# EAGLE library part MSP430_BB (library CYCFI_Module_castellated)
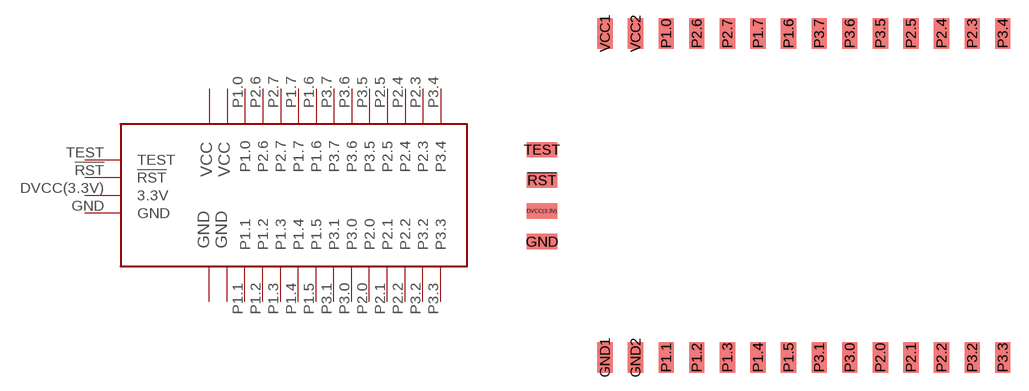
[diagram p0: symbol with the pads of MSP430_BB; footprint MSP430_BB]

Designator prefix -

## MSP430_BB  [MSP430_BB]
!RST  !RST
DVCC(3.3V)  3.3V
GND  GND
GND1  GND1
GND2  GND2
P1.0  P1.0
P1.1  P1.1
P1.2  P1.2
P1.3  P1.3
P1.4  P1.4
P1.5  P1.5
P1.6  P1.6
P1.7  P1.7
P2.0  P2.0
P2.1  P2.1
P2.2  P2.2
P2.3  P2.3
P2.4  P2.4
P2.5  P2.5
P2.6  P2.6
P2.7  P2.7
P3.0  P3.0
P3.1  P3.1
P3.2  P3.2
P3.3  P3.3
P3.4  P3.4
P3.5  P3.5
P3.6  P3.6
P3.7  P3.7
TEST  TEST
VCC1  VCC1
VCC2  VCC2

## Footprint MSP430_BB (pad centres in mm)
smd 2.54 x 1.27: !RST -20.7,1.27; DVCC(3.3V) -20.7,-1.27; GND -20.7,-3.81; TEST -20.7,3.81
smd 1.27 x 2.54: GND1 -15.46,-13.43; GND2 -12.92,-13.43; P1.0 -10.38,13.47; P1.1 -10.38,-13.43; P1.2 -7.84,-13.43; P1.3 -5.3,-13.43; P1.4 -2.76,-13.43; P1.5 -0.22,-13.43; P1.6 -0.22,13.47; P1.7 -2.76,13.47; P2.0 7.4,-13.43; P2.1 9.94,-13.43; P2.2 12.48,-13.43; P2.3 15.02,13.47; P2.4 12.48,13.47; P2.5 9.94,13.47; P2.6 -7.84,13.47; P2.7 -5.3,13.47; P3.0 4.86,-13.43; P3.1 2.32,-13.43; P3.2 15.02,-13.43; P3.3 17.56,-13.43; P3.4 17.56,13.47; P3.5 7.4,13.47; P3.6 4.86,13.47; P3.7 2.32,13.47; VCC1 -15.46,13.47; VCC2 -12.92,13.47